# Altium footprint library Encoder.PcbLib: 9 footprints
Each footprint in its own frame and in the unit in brackets; x right, y up, seen from the top. Pads: shape width x height; smd on the part's side, far side on the other; paste and mask are expansions set on the pad; w line width, h text height; cw(c..) or ccw(c..) is an arc to the next point about the centre after c.
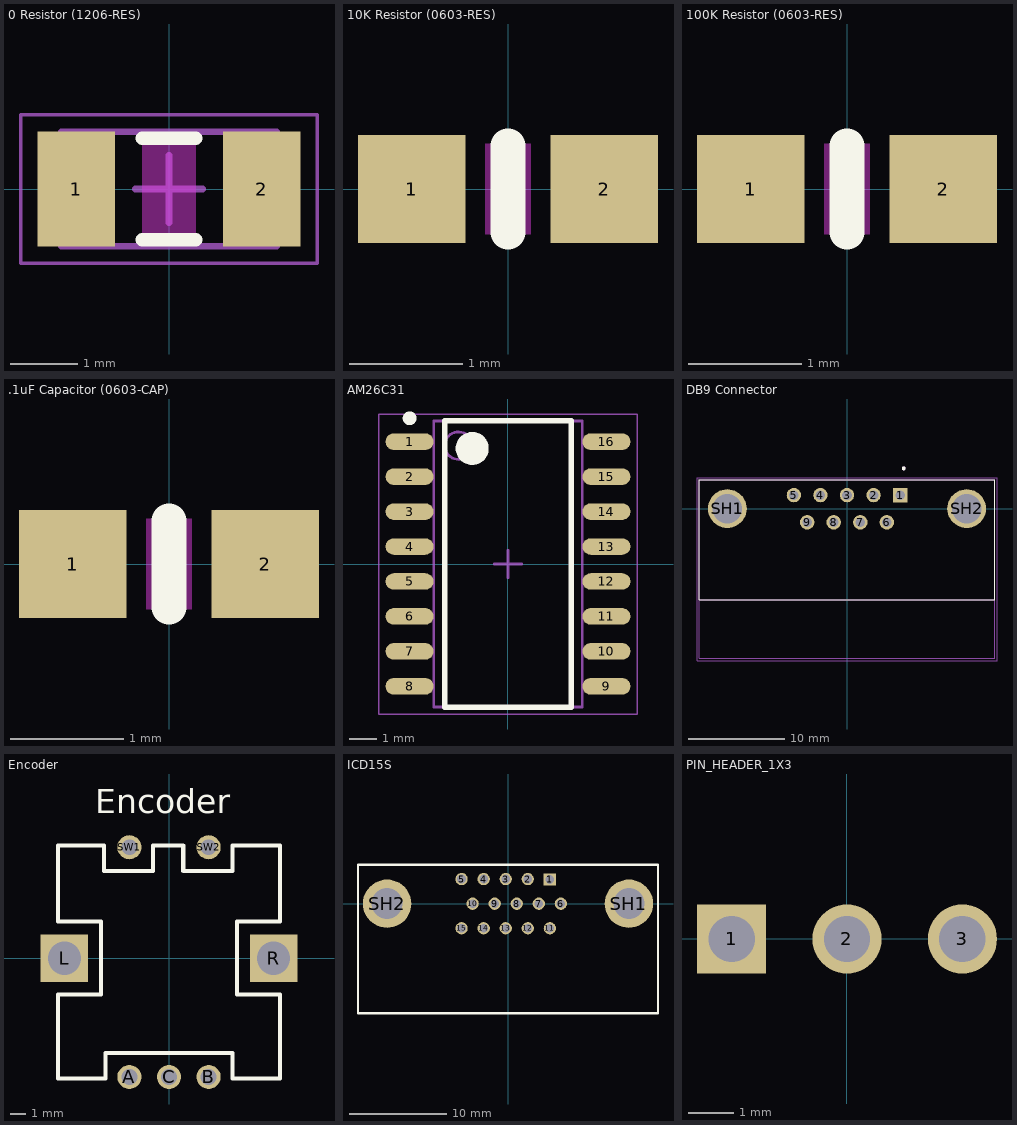
[diagram p0: the footprints below, top view; thin cyan lines are the x and y axes]

## 0 Resistor (1206-RES) [mm] "Chip Resistor, 2-Leads, Body 3.10x1.60mm, IPC Medium Density"
height 0.65
pads (2):
  rect 1.15x1.7 smd: 1(-1.375,0) 2(1.375,0)
Top Layer keep-out:
  region: -0.4,0.75 -0.4,-0.75 0.4,-0.75 0.4,0.75
Top Overlay:
  lines w0.2: -0.4,-0.75 0.4,-0.75 ; -0.4,0.75 0.4,0.75
Mechanical 13:
  lines w0.1: -1.6,-0.85 1.6,-0.85 1.6,0.85 -1.6,0.85 -1.6,-0.85
Mechanical 15:
  lines w0.05: -2.2,-1.1 2.2,-1.1 2.2,1.1 -2.2,1.1 -2.2,-1.1
  lines w0.1: -0.5,0 0.5,0 ; 0,-0.5 0,0.5
3D body "RESC3116X06N.step": height 0.65, standoff 0, extent -1.6,-0.85 1.6,0.85

## 10K Resistor (0603-RES) [mm]
pads (2):
  rect 0.95x0.95 smd: 1(-0.85,0) 2(0.85,0)
Top Layer keep-out:
  region: -0.2,0.4 0.2,0.4 0.2,-0.4 -0.2,-0.4
Top Overlay:
  lines w0.305: 0,-0.381 0,0.381
3D body "0603res.step": height 0.44, standoff -0.02, extent -0.8,-0.4 0.8,0.4

## 100K Resistor (0603-RES) [mm]
pads (2):
  rect 0.95x0.95 smd: 1(-0.85,0) 2(0.85,0)
Top Layer keep-out:
  region: -0.2,0.4 0.2,0.4 0.2,-0.4 -0.2,-0.4
Top Overlay:
  lines w0.305: 0,-0.381 0,0.381
3D body "0603res.step": height 0.44, standoff -0.02, extent -0.8,-0.4 0.8,0.4

## .1uF Capacitor (0603-CAP) [mm]
pads (2):
  rect 0.95x0.95 smd: 1(-0.85,0) 2(0.85,0)
Top Layer keep-out:
  region: -0.2,0.4 0.2,0.4 0.2,-0.4 -0.2,-0.4
Top Overlay:
  lines w0.305: 0,-0.381 0,0.381
3D body "0603cap.step": height 0.79, standoff -0.01, extent -0.8,-0.4 0.8,0.4

## AM26C31 [mm] "SOIC, 16-Leads, Body 10.20x5.30mm, Pitch 1.27mm, IPC Medium Density"
height 2
pads (16):
  oval 1.75x0.6 smd: 1(-3.575,4.445) 2(-3.575,3.175) 3(-3.575,1.905) 4(-3.575,0.635) 5(-3.575,-0.635) 6(-3.575,-1.905) 7(-3.575,-3.175) 8(-3.575,-4.445) 9(3.575,-4.445) 10(3.575,-3.175) 11(3.575,-1.905) 12(3.575,-0.635) 13(3.575,0.635) 14(3.575,1.905) 15(3.575,3.175) 16(3.575,4.445)
Top Overlay:
  circle w0.6: c-1.3,4.2 r0.3
  circle w0.25: c-3.575,5.295 r0.125
  lines w0.2: -2.3,-5.2 2.3,-5.2 2.3,5.2 -2.3,5.2 -2.3,-5.2
Mechanical 13:
  circle w0.1: c-1.8,4.3 r0.5
  lines w0.1: -2.7,-5.2 2.7,-5.2 2.7,5.2 -2.7,5.2 -2.7,-5.2
Mechanical 15:
  lines w0.05: -4.7,-5.45 4.7,-5.45 4.7,5.45 -4.7,5.45 -4.7,-5.45
  lines w0.1: -0.5,0 0.5,0 ; 0,-0.5 0,0.5
3D body: height 2, standoff 0.25, extent -2.7,-5.2 2.7,5.2
3D body "NS16_TEX.step": height 2.01, standoff 0, extent -4.102,-5.245 4.102,5.245

## DB9 Connector [mm] "ASSMANN_A-DF09A/KG-T2S"
pads (11):
  rect 1.508x1.508 hole 1: 1(5.54,1.42)
  round 1.508 hole 1: 2(2.77,1.42) 3(0,1.42) 4(-2.77,1.42) 5(-5.54,1.42) 6(4.155,-1.42) 7(1.385,-1.42) 8(-1.385,-1.42) 9(-4.155,-1.42)
  round 4.066 hole 3.05: SH1(-12.495,0) SH2(12.495,0)
Top Overlay:
  circle w0.2: c5.92,4.2 r0.1
  lines w0.127: -15.405,-9.5 -15.405,3 15.405,3 15.405,-9.5 -15.405,-9.5
Mechanical 13:
  circle w0.2: c5.92,4.2 r0.1
  lines w0.127: -15.405,-9.5 15.405,-9.5 ; -15.405,-15.6 -15.405,3 15.405,3 15.405,-15.6 -15.405,-15.6
Mechanical 15:
  lines w0.05: -15.655,-15.85 -15.655,3.25 15.655,3.25 15.655,-15.85 -15.655,-15.85
3D body "step_temp.STEP": height 12.55, standoff -4.33, extent -15.405,-15.32 15.405,2.98

## Encoder [mm] "PEC12R-4220F-S0024"
pads (7):
  round 1.524 hole 1: A(-2.5,-7.5) B(2.5,-7.5) C(0,-7.5) SW1(-2.5,7) SW2(2.5,7)
  rect 3x3 hole 2.1 square: L(-6.6,0) R(6.6,0)
Top Overlay:
  lines w0.254: -7,-7.6 -7,-2.3 -4.3,-2.3 -4.3,2.3 -7,2.3 -7,7.1 -4.1,7.1 -4.1,5.5 -1,5.5 -1,7.1 0.9,7.1 0.9,5.5 4,5.5 4,7.1 7,7.1 7,2.3 4.3,2.3 4.3,-2.3 7,-2.3 7,-7.6 4,-7.6 4,-6 -4,-6 -4,-7.6 -7,-7.6
  text "Encoder" at -4.646,9.154 h1.52
3D body "pec12r-4x20f-sxxxx.stp": height 19.91, standoff -3.59, extent -7,-7.6 7,7.15

## ICD15S [mm] "CONN DSUB HD RCPT 15POS R/A SLDR"
pads (17):
  rect 1.27x1.27 hole 0.9: 1(4.305,2.5)
  round 1.27 hole 0.9: 2(2.045,2.54) 3(-0.235,2.54) 4(-2.515,2.54) 5(-4.795,2.54) 6(5.465,0) 7(3.185,0) 8(0.905,0) 9(-1.375,0) 10(-3.655,0) 11(4.325,-2.54) 12(2.045,-2.54) 13(-0.235,-2.54) 14(-2.515,-2.54) 15(-4.795,-2.54)
  round 5 hole 3.2: SH1(12.495,0) SH2(-12.495,0)
Top Overlay:
  lines w0.254: -15.5,-11.3 15.5,-11.3 15.5,4 -15.5,4 -15.5,-11.3
3D body "sicd15s13e6gx00lf.stp": height 12.65, standoff -3.1, extent -15.5,-17.58 15.5,4

## PIN_HEADER_1X3 [mil]
pads (3):
  rect 60x60 hole 40.16: 1(-100,0)
  round 60 hole 40.16: 2(0,0) 3(100,0)